# Altium integrated library C0805C104K6RACTU.IntLib: 1 symbol
Pins are listed as number, name and electrical type; pins without a type are passive.

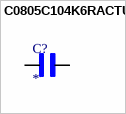
[diagram p0: symbol C0805C104K6RACTU]

## C0805C104K6RACTU
designator C?
0.1 ÂµF Â±10% 35V Ceramic Capacitor X7R 0805 (2012 Metric); MF: KEMET; MP: C0805C104K6RACTU; SnapEDA_Link: https://www.snapeda.com/parts/C0805C104K6RACTU/KEMET/view-part/?ref=snap; Package: 805-2 KEMET; Value: *; Check_prices: https://www.snapeda.com/parts/C0805C104K6RACTU/KEMET/view-part/?ref=eda
footprint CAPC2012X88N
pins: 1, 2